# Altium schematic symbol library SA412.SCHLIB: 1 symbol
Pins are listed as number, name and electrical type; pins without a type are passive.

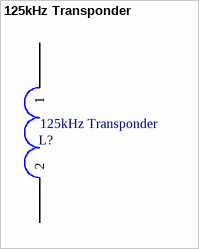
[diagram p0: symbol 125kHz Transponder]

## 125kHz Transponder
designator L?
footprint SA412 (125kHz Transponder surface mount antenna)
pins: 2, 4 1